# EAGLE library part FPC-43WAY (library pimoroni-fpc)
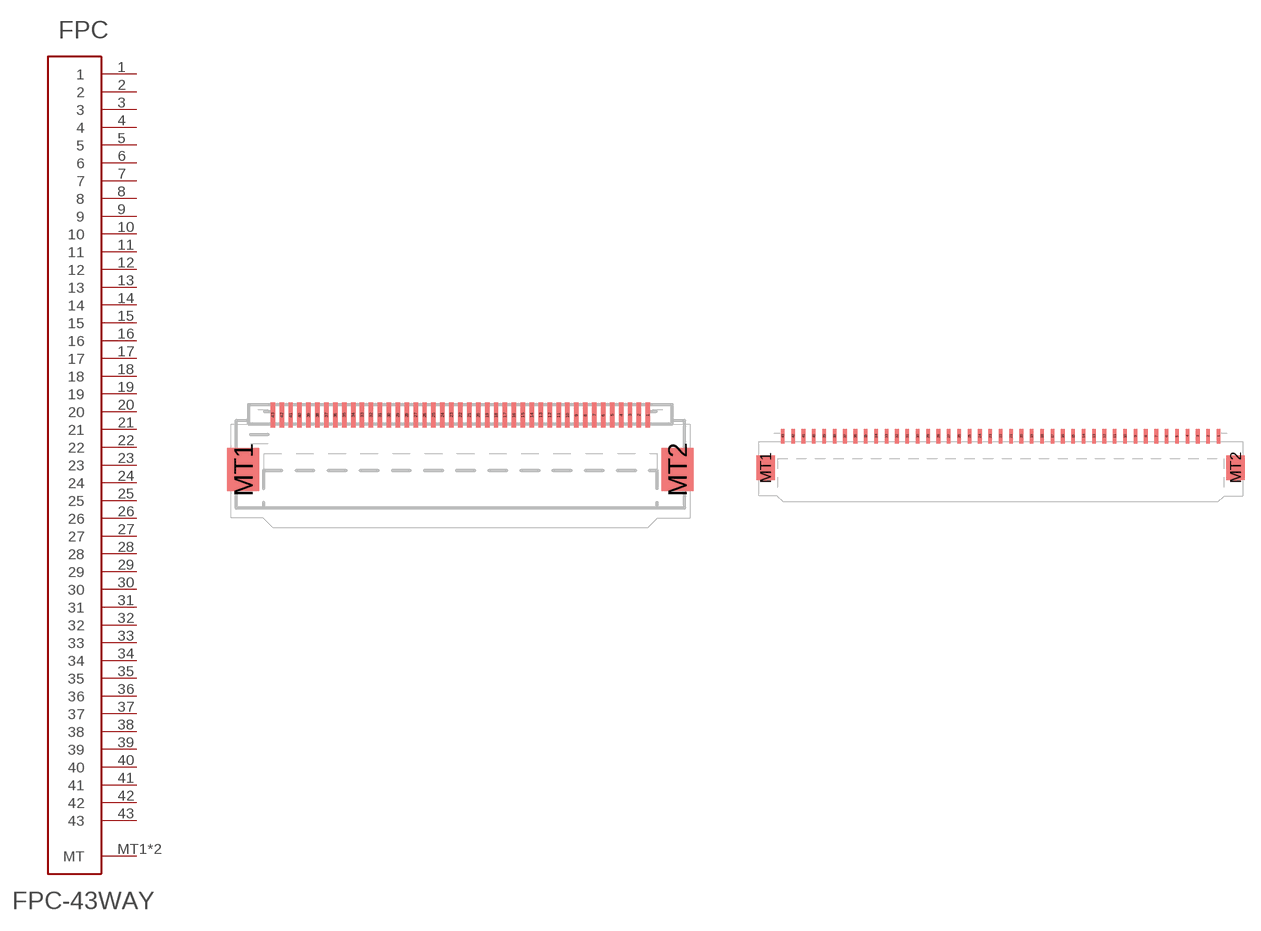
[diagram p38: symbol with the pads of FPC-0.5MM-43WAY; footprints FPC-0.5MM-43WAY, FPC-1.0MM-43WAY]

Designator prefix FPC

## FPC-43WAY0.5  [FPC-0.5MM-43WAY]
1  1
2  2
3  3
4  4
5  5
6  6
7  7
8  8
9  9
10  10
11  11
12  12
13  13
14  14
15  15
16  16
17  17
18  18
19  19
20  20
21  21
22  22
23  23
24  24
25  25
26  26
27  27
28  28
29  29
30  30
31  31
32  32
33  33
34  34
35  35
36  36
37  37
38  38
39  39
40  40
41  41
42  42
43  43
MT1  MT
MT2  MT

## FPC-43WAY1.0  [FPC-1.0MM-43WAY]
Pads as for FPC-0.5MM-43WAY

## Footprint FPC-0.5MM-43WAY (pad centres in mm)
smd 0.25 x 1.4: 1 10.5,0.7; 2 10,0.7; 3 9.5,0.7; 4 9,0.7; 5 8.5,0.7; 6 8,0.7; 7 7.5,0.7; 8 7,0.7; 9 6.5,0.7; 10 6,0.7; 11 5.5,0.7; 12 5,0.7; 13 4.5,0.7; 14 4,0.7; 15 3.5,0.7; 16 3,0.7; 17 2.5,0.7; 18 2,0.7; 19 1.5,0.7; 20 1,0.7; 21 0.5,0.7; 22 0,0.7; 23 -0.5,0.7; 24 -1,0.7; 25 -1.5,0.7; 26 -2,0.7; 27 -2.5,0.7; 28 -3,0.7; 29 -3.5,0.7; 30 -4,0.7; 31 -4.5,0.7; 32 -5,0.7; 33 -5.5,0.7; 34 -6,0.7; 35 -6.5,0.7; 36 -7,0.7; 37 -7.5,0.7; 38 -8,0.7; 39 -8.5,0.7; 40 -9,0.7; 41 -9.5,0.7; 42 -10,0.7; 43 -10.5,0.7
smd 1.8 x 2.4: MT1 -12.15,-2.35; MT2 12.15,-2.35

## Footprint FPC-1.0MM-43WAY (pad centres in mm)
smd 0.35 x 1.4: 1 21,0.7; 2 20,0.7; 3 19,0.7; 4 18,0.7; 5 17,0.7; 6 16,0.7; 7 15,0.7; 8 14,0.7; 9 13,0.7; 10 12,0.7; 11 11,0.7; 12 10,0.7; 13 9,0.7; 14 8,0.7; 15 7,0.7; 16 6,0.7; 17 5,0.7; 18 4,0.7; 19 3,0.7; 20 2,0.7; 21 1,0.7; 22 0,0.7; 23 -1,0.7; 24 -2,0.7; 25 -3,0.7; 26 -4,0.7; 27 -5,0.7; 28 -6,0.7; 29 -7,0.7; 30 -8,0.7; 31 -9,0.7; 32 -10,0.7; 33 -11,0.7; 34 -12,0.7; 35 -13,0.7; 36 -14,0.7; 37 -15,0.7; 38 -16,0.7; 39 -17,0.7; 40 -18,0.7; 41 -19,0.7; 42 -20,0.7; 43 -21,0.7
smd 1.8 x 2.4: MT1 -22.65,-2.35; MT2 22.65,-2.35